# Altium footprint library Mechanical.PcbLib: 2 footprints
Each footprint in its own frame and in the unit in brackets; x right, y up, seen from the top. Pads: shape width x height; smd on the part's side, far side on the other; paste and mask are expansions set on the pad; w line width, h text height; cw(c..) or ccw(c..) is an arc to the next point about the centre after c.
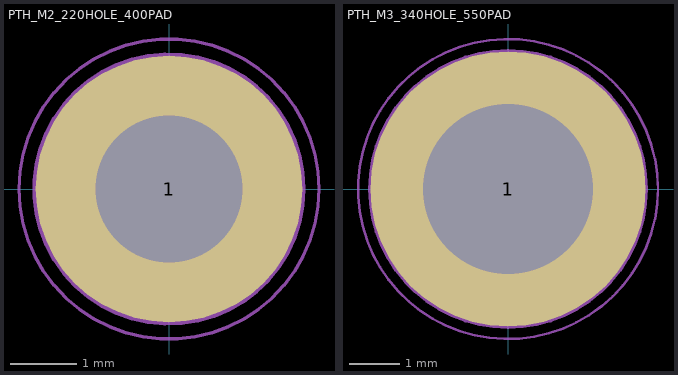
[diagram p0: the footprints below, top view; thin cyan lines are the x and y axes]

## PTH_M2_220HOLE_400PAD [mm] "Plated through hole for M2 screw, 2.20 mm hole, 4.00 mm pad"
pads (1):
  round 4 hole 2.2 paste-3.023: 1(0,0)
Mechanical 13:
  circle w0.1: c0,0 r2
  circle w0.1: c0,0 r1.7
Mechanical 15:
  circle w0.05: c0,0 r2.25

## PTH_M3_340HOLE_550PAD [mm] "Plated through hole for M3 screw, 3.40 mm hole, 5.50 mm pad"
pads (1):
  round 5.5 hole 3.4 paste-3.023: 1(0,0)
Mechanical 13:
  circle w0.1: c0,0 r2.75
  circle w0.1: c0,0 r1.7
Mechanical 15:
  circle w0.05: c0,0 r3